# Altium footprint library LED_0603 - GREEN.PcbLib: 1 footprints
Each footprint in its own frame and in the unit in brackets; x right, y up, seen from the top. Pads: shape width x height; smd on the part's side, far side on the other; paste and mask are expansions set on the pad; w line width, h text height; cw(c..) or ccw(c..) is an arc to the next point about the centre after c.
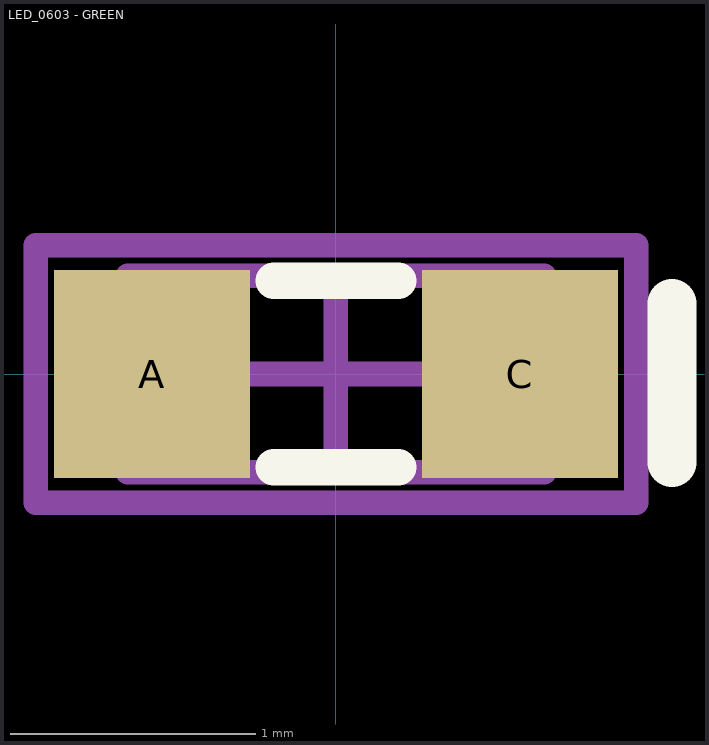
[diagram p0: the footprint, top view; thin cyan lines are the x and y axes]

## LED_0603 - GREEN [mm] "LED_0603 - GREEN"
height 0.8
pads (2):
  rect 0.8x0.85 smd: A(-0.75,0) C(0.75,0)
Top Overlay:
  lines w0.15: -0.254,-0.381 0.254,-0.381 ; -0.254,0.381 0.254,0.381
  lines w0.2: 1.372,-0.362 1.372,0.287
Mechanical 13:
  lines w0.1: -0.85,-0.4 -0.85,0.4 0.85,0.4 0.85,-0.4 -0.85,-0.4
Mechanical 15:
  lines w0.1: -0.4,0 0.4,0 ; 0,-0.4 0,0.4 ; -1.225,-0.525 -1.225,0.525 1.225,0.525 1.225,-0.525 -1.225,-0.525
3D body: height 0.26, standoff 0.25, extent 0.476,0.226 0.499,0.374
3D body: height 0.26, standoff 0.25, extent 0.476,-0.374 0.499,-0.226
3D body: height 0.75, standoff 0.25, extent -0.475,-0.399 0.474,0.399
3D body: height 0.25, standoff 0, extent -0.499,-0.399 0.499,0.399
3D body: height 0.25, standoff 0, extent 0.5,-0.399 0.8,0.4
3D body: height 0.25, standoff 0, extent -0.8,-0.399 -0.5,0.4